# EAGLE library part REF02HCSA (library maxim)
VOLTAGE REFERENCE
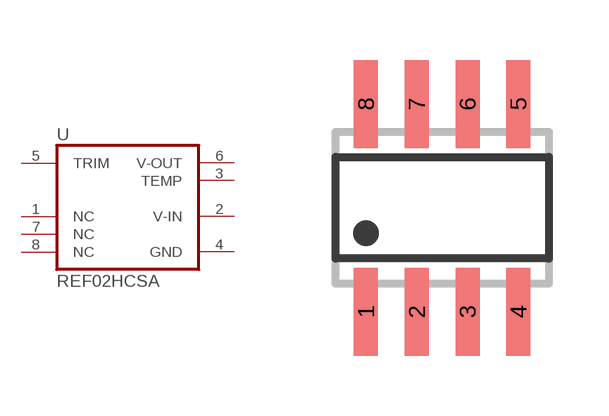
[diagram p35: symbol with the pads of SO08; footprint SO08]

Designator prefix U

## REF02HCSA  [SO08]
1  NC  nc
2  V-IN  pwr
3  TEMP  out
4  GND  pwr
5  TRIM  in
6  V-OUT  out
7  NC  nc
8  NC  nc

## Footprint SO08 (pad centres in mm)
SMALL OUTLINE INTEGRATED CIRCUIT body 3.9 mm/JEDEC MS-012AA
smd 0.6 x 2.2: 1 -1.905,-2.6; 2 -0.635,-2.6; 3 0.635,-2.6; 4 1.905,-2.6; 5 1.905,2.6; 6 0.635,2.6; 7 -0.635,2.6; 8 -1.905,2.6